# EAGLE library part RGB-LED (library WorTel2023_Library)
LED; SMD; 5050, PLCC6; RGB; 5x5x1.6mm; 120°; 20mA; Lens: transparent
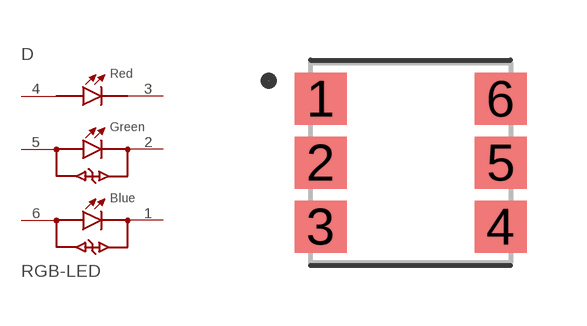
[diagram p1: symbol with the pads of RGB-5050; footprint RGB-5050]

Designator prefix D

## RGB-LED (MANUFACTURER: Lite-On; MAXIMUM_PACKAGE_HEIGHT: 1.8 mm; PARTREV: D; STANDARD: Manufacturer Recommendations)  [RGB-5050]
1  1  pas
2  2  pas
3  3  pas
4  4  pas
5  5  pas
6  6  pas

## Footprint RGB-5050 (pad centres in mm)
smd 1.3 x 1.3: 1 -2.25,1.6; 2 -2.25,0; 3 -2.25,-1.6; 4 2.25,-1.6; 5 2.25,0; 6 2.25,1.6